# Altium schematic symbol library CY15B102Q-SXET.SchLib: 1 symbol
Pins are listed as number, name and electrical type; pins without a type are passive.

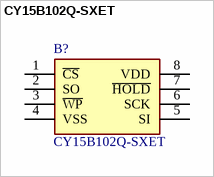
[diagram p0: symbol CY15B102Q-SXET]

## CY15B102Q-SXET
designator B?
FRAM 2Mbit Serial-SPI 3.3V Automotive 8-Pin SOIC T/R; Manufacturer_Name: Infineon; Geometry.Height: 2.03mm; Mouser Part Number: 727-CY15B102Q-SXET; Mouser Price/Stock: https://www.mouser.co.uk/ProductDetail/Infineon-Technologies/CY15B102Q-SXET?qs=3FnuM6ZipRJPdZOLuRNzcg%3D%3D; Manufacturer_Part_Number: CY15B102Q-SXET; Datasheet Link: https://www.mouser.in/datasheet/2/100/CYPR_S_A0004022923_1-2540860.pdf
footprint SOIC127P800X203-8N
pins: 1 ~{CS}, 2 SO, 3 ~{WP}, 4 VSS, 5 SI, 6 SCK, 7 ~{HOLD}, 8 VDD